# EAGLE library part 74AC11030 (library 74ac-logic)
8-input NAND
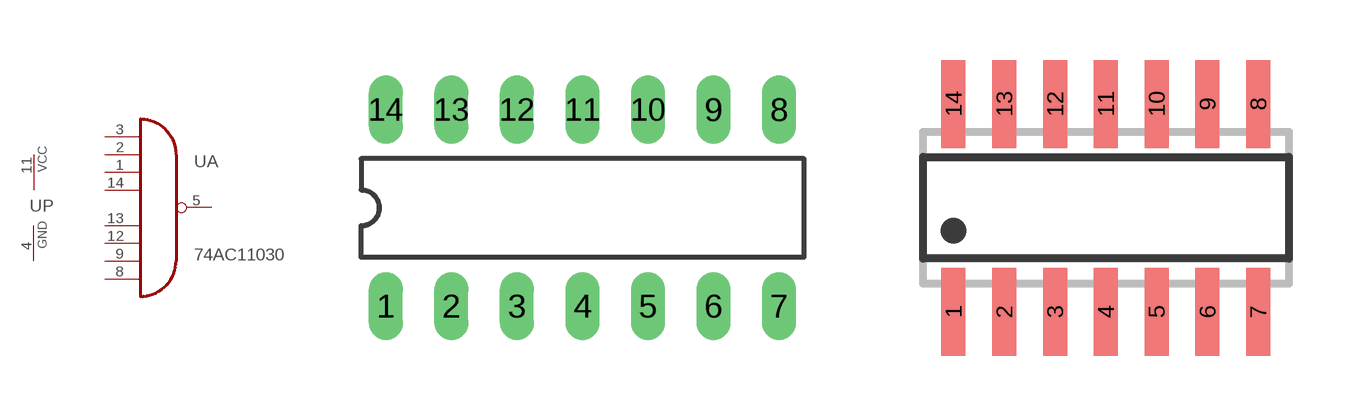
[diagram p9: symbol with the pads of DIL14; footprints DIL14, SO14]

Designator prefix U; gates A=7411030 P=PWRN

## 74AC11030  [DIL14]
1  A:I2  in
2  A:I1  in
3  A:I0  in
4  P:GND  pwr
5  A:O  out
8  A:I7  in
9  A:I6  in
11  P:VCC  pwr
12  A:I5  in
13  A:I4  in
14  A:I3  in

## 74AC11030D  [SO14]
Pads as for DIL14

## Footprint DIL14 (pad centres in mm)
Dual In Line Package
drill 0.813 long: 1 -7.62,-3.81; 2 -5.08,-3.81; 3 -2.54,-3.81; 4 0,-3.81; 5 2.54,-3.81; 6 5.08,-3.81; 7 7.62,-3.81; 8 7.62,3.81; 9 5.08,3.81; 10 2.54,3.81; 11 0,3.81; 12 -2.54,3.81; 13 -5.08,3.81; 14 -7.62,3.81

## Footprint SO14 (pad centres in mm)
SMALL OUTLINE INTEGRATED CIRCUIT body 3.9 mm/JEDEC MS-012AC
smd 0.6 x 2.2: 1 -3.81,-2.6; 2 -2.54,-2.6; 3 -1.27,-2.6; 4 0,-2.6; 5 1.27,-2.6; 6 2.54,-2.6; 7 3.81,-2.6; 8 3.81,2.6; 9 2.54,2.6; 10 1.27,2.6; 11 0,2.6; 12 -1.27,2.6; 13 -2.54,2.6; 14 -3.81,2.6